# EAGLE library part AAT3672-1/-2 (library schematic)
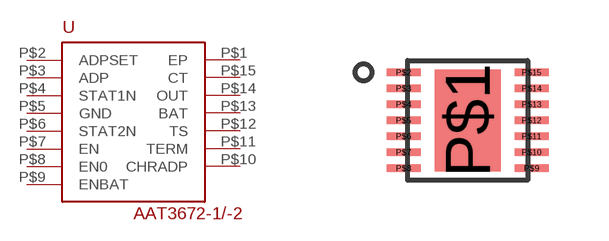
[diagram p10: symbol with the pads of AAT3672-1/-2; footprint AAT3672-1/-2]

Designator prefix -

## AAT3672-1/-2  [AAT3672-1/-2]
P$1  EP
P$2  ADPSET
P$3  ADP
P$4  STAT1N
P$5  GND
P$6  STAT2N
P$7  EN
P$8  EN0
P$9  ENBAT
P$10  CHRADP
P$11  TERM
P$12  TS
P$13  BAT
P$14  OUT
P$15  CT

## Footprint AAT3672-1/-2 (pad centres in mm)
smd 1.65 x 2.55: P$1 0,0
smd 0.85 x 0.18: P$2 -1.6,1.2; P$3 -1.6,0.8; P$4 -1.6,0.4; P$5 -1.6,0; P$6 -1.6,-0.4; P$7 -1.6,-0.8; P$8 -1.6,-1.2; P$9 1.6,-1.2; P$10 1.6,-0.8; P$11 1.6,-0.4; P$12 1.6,0; P$13 1.6,0.4; P$14 1.6,0.8; P$15 1.6,1.2